# Altium schematic symbol library DIODE_SCHOTTKY_DUAL_SERIES.SchLib: 1 symbol
Pins are listed as number, name and electrical type; pins without a type are passive.

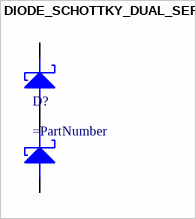
[diagram p0: symbol DIODE_SCHOTTKY_DUAL_SERIES]

## DIODE_SCHOTTKY_DUAL_SERIES
designator D?
pins: 1 ANODE, 2 CATHODE, 3 CATHODE/ANODE